# EAGLE library part MICROSD_5031821853 (library automaton)
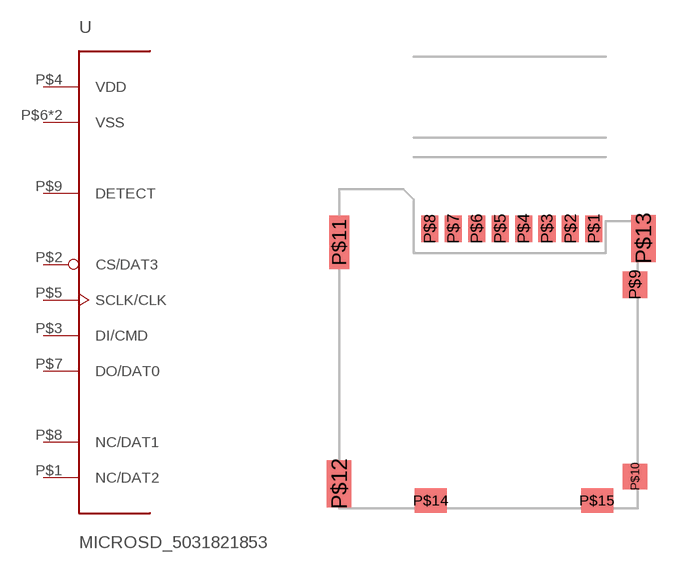
[diagram p5: symbol with the pads of MICROSD_5031821853; footprint MICROSD_5031821853]

Designator prefix -

## MICROSD_50318218535031821853  [MICROSD_5031821853]
P$1  NC/DAT2
P$2  CS/DAT3  in
P$3  DI/CMD  in
P$4  VDD  pwr
P$5  SCLK/CLK  in
P$6  VSS  pwr
P$7  DO/DAT0  out
P$8  NC/DAT1
P$9  DETECT
P$10  VSS  pwr

## Footprint MICROSD_5031821853 (pad centres in mm)
smd 0.8 x 1.25: P$1 4.95,5.625; P$2 3.85,5.625; P$3 2.75,5.625; P$4 1.65,5.625; P$5 0.55,5.625; P$6 -0.55,5.625; P$7 -1.65,5.625; P$8 -2.75,5.625
smd 1.15 x 1.25: P$9 6.875,3
smd 1.15 x 1.2: P$10 6.875,-6
smd 0.95 x 2.5: P$11 -7,5
smd 1.15 x 2.2: P$12 -7,-6.35; P$13 7.275,5.175
smd 1.5 x 1.15: P$14 -2.7,-7.125; P$15 5.1,-7.125